# Altium schematic symbol library PESD4USB5B-TBRX.SchLib: 1 symbol
Pins are listed as number, name and electrical type; pins without a type are passive.

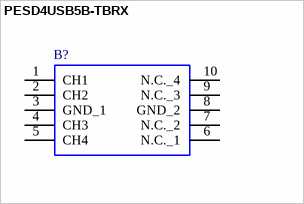
[diagram p0: symbol PESD4USB5B-TBRX]

## PESD4USB5B-TBRX
designator B?
NEXPERIA - PESD4USB5B-TBRX - ESD Protection Device, DFN2510A, 10 Pins, 5 V; Geometry.Height: 0.8mm; Mouser Part Number: 771-PESD4USB5B-TBRX; Mouser Price/Stock: https://www.mouser.co.uk/ProductDetail/Nexperia/PESD4USB5B-TBRX?qs=MyNHzdoqoQL1Wz6R0ceOBw%3D%3D; Manufacturer_Name: Nexperia; Manufacturer_Part_Number: PESD4USB5B-TBRX; Datasheet Link: https://assets.nexperia.com/documents/data-sheet/PESD4USB5B-TBS.pdf
footprint PESD4USB5BTBRX
pins: 1 CH1, 2 CH2, 3 GND_1, 4 CH3, 5 CH4, 6 N.C._1, 7 N.C._2, 8 GND_2, 9 N.C._3, 10 N.C._4